# Altium schematic symbol library MEM2061-01-188-00-A.SchLib: 1 symbol
Pins are listed as number, name and electrical type; pins without a type are passive.

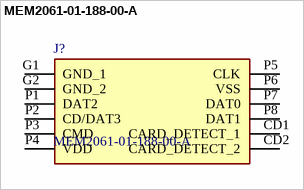
[diagram p0: symbol MEM2061-01-188-00-A]

## MEM2061-01-188-00-A
designator J?
MEM2061 Series 8 Position 1.1 mm Pitch Push-Push MicroSD SMT Memory Card Connector; Manufacturer_Name: GCT (GLOBAL CONNECTOR TECHNOLOGY); Geometry.Height: 2.13mm; Mouser Part Number: 640-MEM20610118800A; Mouser Price/Stock: https://www.mouser.co.uk/ProductDetail/GCT/MEM2061-01-188-00-A?qs=KUoIvG%2F9IlYc25USp0M1eQ%3D%3D; Manufacturer_Part_Number: MEM2061-01-188-00-A; Datasheet Link: https://gct.co/files/drawings/mem2061.pdf?v=db251ddb-1946-4f24-aa19-b8a17901bdd2
footprint MEM20610118800A
pins: CD1 CARD_DETECT_1, CD2 CARD_DETECT_2, G1 GND_1, G2 GND_2, P1 DAT2, P2 CD/DAT3, P3 CMD, P4 VDD, P5 CLK, P6 VSS, P7 DAT0, P8 DAT1